# EAGLE library part EPM7128STC100-15 (library EPM7128STC100-15)
IC MAX 7000 CPLD 128 100-TQFP Check availability <https://pricing.snapeda.com/parts/EPM7128STC100-15/Intel/view-part?ref=eda>
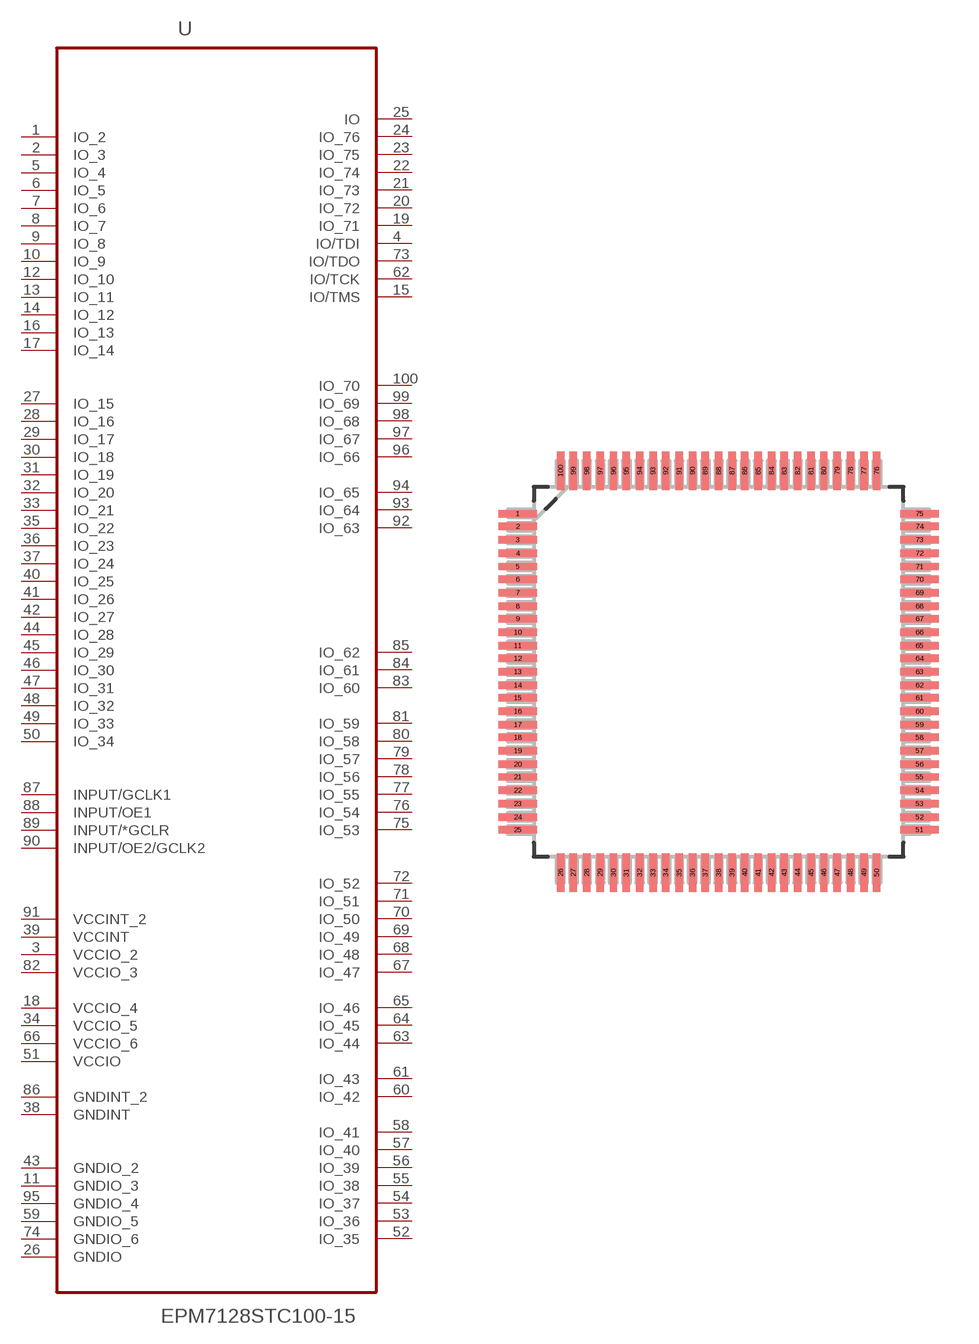
[diagram p0: symbol with the pads of QFP50P1600X1600X120-100N; footprint QFP50P1600X1600X120-100N]

Designator prefix U

## EPM7128STC100-15 (Availability: In Stock; Description: IC CPLD 128MC 15NS 100TQFP; MF: Intel; MP: EPM7128STC100-15; Package: TQFP-100 Altera; Price: None)  [QFP50P1600X1600X120-100N]
1  IO_2
2  IO_3
3  VCCIO_2  pwr
4  IO/TDI
5  IO_4
6  IO_5
7  IO_6
8  IO_7
9  IO_8
10  IO_9
11  GNDIO_3  pas
12  IO_10
13  IO_11
14  IO_12
15  IO/TMS
16  IO_13
17  IO_14
18  VCCIO_4  pwr
19  IO_71
20  IO_72
21  IO_73
22  IO_74
23  IO_75
24  IO_76
25  IO
26  GNDIO  pas
27  IO_15
28  IO_16
29  IO_17
30  IO_18
31  IO_19
32  IO_20
33  IO_21
34  VCCIO_5  pwr
35  IO_22
36  IO_23
37  IO_24
38  GNDINT  pas
39  VCCINT  pwr
40  IO_25
41  IO_26
42  IO_27
43  GNDIO_2  pas
44  IO_28
45  IO_29
46  IO_30
47  IO_31
48  IO_32
49  IO_33
50  IO_34
51  VCCIO  pwr
52  IO_35
53  IO_36
54  IO_37
55  IO_38
56  IO_39
57  IO_40
58  IO_41
59  GNDIO_5  pas
60  IO_42
61  IO_43
62  IO/TCK
63  IO_44
64  IO_45
65  IO_46
66  VCCIO_6  pwr
67  IO_47
68  IO_48
69  IO_49
70  IO_50
71  IO_51
72  IO_52
73  IO/TDO
74  GNDIO_6  pas
75  IO_53
76  IO_54
77  IO_55
78  IO_56
79  IO_57
80  IO_58
81  IO_59
82  VCCIO_3  pwr
83  IO_60
84  IO_61
85  IO_62
86  GNDINT_2  pas
87  INPUT/GCLK1  in
88  INPUT/OE1  in
89  INPUT/*GCLR  in
90  INPUT/OE2/GCLK2  in
91  VCCINT_2  pwr
92  IO_63
93  IO_64
94  IO_65
95  GNDIO_4  pas
96  IO_66
97  IO_67
98  IO_68
99  IO_69
100  IO_70

## Footprint QFP50P1600X1600X120-100N (pad centres in mm)
smd 1.473 x 0.279: 1 -7.62,5.994; 2 -7.62,5.512; 3 -7.62,5.004; 4 -7.62,4.496; 5 -7.62,3.988; 6 -7.62,3.505; 7 -7.62,2.997; 8 -7.62,2.489; 9 -7.62,2.007; 10 -7.62,1.499; 11 -7.62,0.991; 12 -7.62,0.508; 13 -7.62,0; 14 -7.62,-0.508; 15 -7.62,-0.991; 16 -7.62,-1.499; 17 -7.62,-2.007; 18 -7.62,-2.489; 19 -7.62,-2.997; 20 -7.62,-3.505; 21 -7.62,-3.988; 22 -7.62,-4.496; 23 -7.62,-5.004; 24 -7.62,-5.512; 25 -7.62,-5.994; 51 7.62,-5.994; 52 7.62,-5.512; 53 7.62,-5.004; 54 7.62,-4.496; 55 7.62,-3.988; 56 7.62,-3.505; 57 7.62,-2.997; 58 7.62,-2.489; 59 7.62,-2.007; 60 7.62,-1.499; 61 7.62,-0.991; 62 7.62,-0.508; 63 7.62,0; 64 7.62,0.508; 65 7.62,0.991; 66 7.62,1.499; 67 7.62,2.007; 68 7.62,2.489; 69 7.62,2.997; 70 7.62,3.505; 71 7.62,3.988; 72 7.62,4.496; 73 7.62,5.004; 74 7.62,5.512; 75 7.62,5.994
smd 0.279 x 1.473: 26 -5.994,-7.62; 27 -5.512,-7.62; 28 -5.004,-7.62; 29 -4.496,-7.62; 30 -3.988,-7.62; 31 -3.505,-7.62; 32 -2.997,-7.62; 33 -2.489,-7.62; 34 -2.007,-7.62; 35 -1.499,-7.62; 36 -0.991,-7.62; 37 -0.508,-7.62; 38 0,-7.62; 39 0.508,-7.62; 40 0.991,-7.62; 41 1.499,-7.62; 42 2.007,-7.62; 43 2.489,-7.62; 44 2.997,-7.62; 45 3.505,-7.62; 46 3.988,-7.62; 47 4.496,-7.62; 48 5.004,-7.62; 49 5.512,-7.62; 50 5.994,-7.62; 76 5.994,7.62; 77 5.512,7.62; 78 5.004,7.62; 79 4.496,7.62; 80 3.988,7.62; 81 3.505,7.62; 82 2.997,7.62; 83 2.489,7.62; 84 2.007,7.62; 85 1.499,7.62; 86 0.991,7.62; 87 0.508,7.62; 88 0,7.62; 89 -0.508,7.62; 90 -0.991,7.62; 91 -1.499,7.62; 92 -2.007,7.62; 93 -2.489,7.62; 94 -2.997,7.62; 95 -3.505,7.62; 96 -3.988,7.62; 97 -4.496,7.62; 98 -5.004,7.62; 99 -5.512,7.62; 100 -5.994,7.62